# Altium schematic symbol library LM7805sch.SchLib: 1 symbol
Pins are listed as number, name and electrical type; pins without a type are passive.

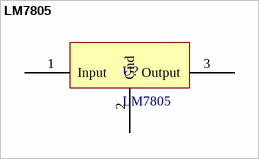
[diagram p0: symbol LM7805]

## LM7805
designator U?
pins: 1 Input, 2 Gnd, 3 Output